# EAGLE library part HCF4017BEY (library ST Microelctronics_By_element14_Batch_1)
DECADE COUNTER WITH 10 DECODED OUTPUTS
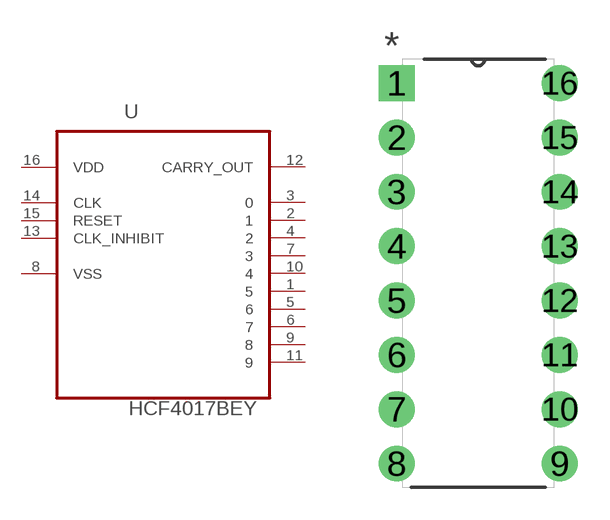
[diagram p10: symbol with the pads of DIP254P762X510-16; footprint DIP254P762X510-16]

Designator prefix U

## HCF4017BEY (MPN: HCF4017BEY; OC_FARNELL: -; OC_NEWARK: 89K0558; PACKAGE: PDIP-16; SUPPLIER: STMICROELECTRONICS)  [DIP254P762X510-16]
1  5  out
2  1  out
3  0  out
4  2  out
5  6  out
6  7  out
7  3  out
8  VSS  pwr
9  8  out
10  4  out
11  9  out
12  CARRY_OUT  out
13  CLK_INHIBIT  in
14  CLK  in
15  RESET  in
16  VDD  pwr

## Footprint DIP254P762X510-16 (pad centres in mm)
drill 1.118 square: 1 -7.62,17.78
drill 1.118: 2 -7.62,15.24; 3 -7.62,12.7; 4 -7.62,10.16; 5 -7.62,7.62; 6 -7.62,5.08; 7 -7.62,2.54; 8 -7.62,0; 9 0,0; 10 0,2.54; 11 0,5.08; 12 0,7.62; 13 0,10.16; 14 0,12.7; 15 0,15.24; 16 0,17.78